# Altium schematic symbol library TPS2117DRLR.SchLib: 1 symbol
Pins are listed as number, name and electrical type; pins without a type are passive.

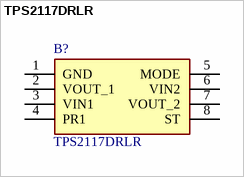
[diagram p0: symbol TPS2117DRLR]

## TPS2117DRLR
designator B?
Power Switch ICs - Power Distribution 1.6-V to 5.5-V, 20-m?, 4-A low IQ power multiplexer with manual and priority switchover 8-SOT-5X3 -40 to 125; Manufacturer_Name: Texas Instruments; Geometry.Height: 0.6mm; Mouser Part Number: 595-TPS2117DRLR; Mouser Price/Stock: https://www.mouser.co.uk/ProductDetail/Texas-Instruments/TPS2117DRLR?qs=HoCaDK9Nz5c%2FKe5lpCPPWQ%3D%3D; Manufacturer_Part_Number: TPS2117DRLR; Datasheet Link: https://www.ti.com/lit/ds/symlink/tps2117.pdf?ts=1704705133749&ref_url=https%253A%252F%252Fwww.ti.com%252Fproduct%252FTPS2117
footprint SOTFL50P160X60-8N
pins: 1 GND, 2 VOUT_1, 3 VIN1, 4 PR1, 5 MODE, 6 VIN2, 7 VOUT_2, 8 ST